# EAGLE library part CY8C4245AXI-483 (library CY8C4245AXI-483)
PSoC 4 32-Bit Cortex M0 32K Flash TQFP44 Cypress Semiconductor CY8C4245AXI-483, System-On-Chip CMOS for Embedded, 1.71 5.5 V 44-Pin TQFP Source: Datasheet <http://docs-emea.rs-online.com/webdocs/1335/0900766b813353a3.pdf>
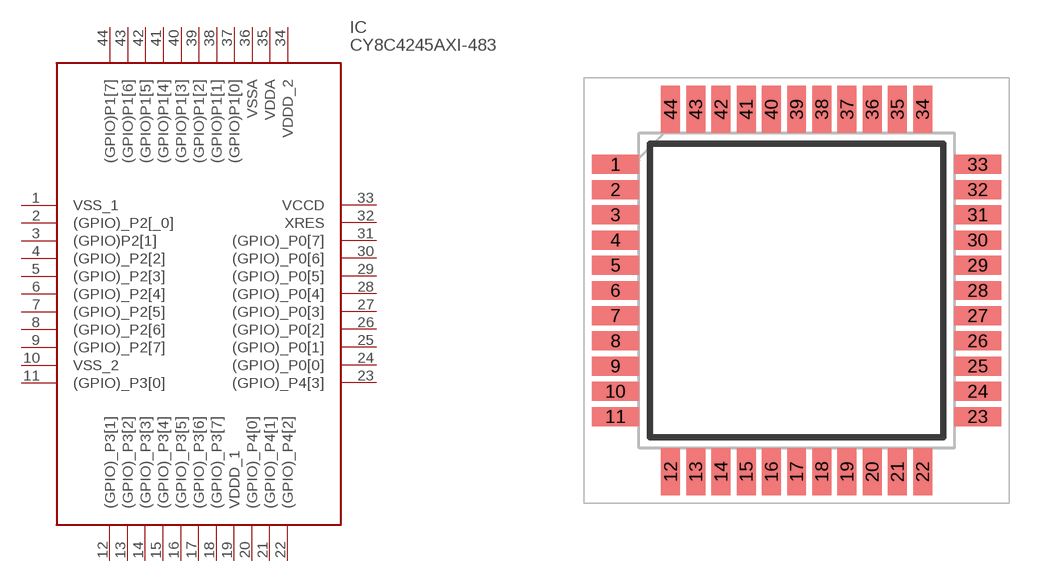
[diagram p0: symbol with the pads of QFP80P1200X1200X160-44N; footprint QFP80P1200X1200X160-44N]

Designator prefix IC

## CY8C4245AXI-483 (Arrow_Part_Number: CY8C4245AXI-483; Arrow_Price-Stock: https://www.arrow.com/en/products/cy8c4245axi-483/cypress-semiconductor; Description: PSoC 4 32-Bit Cortex M0 32K Flash TQFP44 Cypress Semiconductor CY8C4245AXI-483, System-On-Chip CMOS for Embedded, 1.71 5.5 V 44-Pin TQFP; Height: 1.6mm; Manufacturer_Name: Cypress Semiconductor; Manufacturer_Part_Number: CY8C4245AXI-483; Mouser_Part_Number: 727-CY8C4245AXI-483; Mouser_Price-Stock: https://www.mouser.co.uk/ProductDetail/Cypress-Semiconductor/CY8C4245AXI-483?qs=LqwxS8kK3Avb3G2RQ97pnQ%3D%3D)  [QFP80P1200X1200X160-44N]
1  VSS_1
2  (GPIO)_P2[_0]
3  (GPIO)P2[1]
4  (GPIO)_P2[2]
5  (GPIO)_P2[3]
6  (GPIO)_P2[4]
7  (GPIO)_P2[5]
8  (GPIO)_P2[6]
9  (GPIO)_P2[7]
10  VSS_2
11  (GPIO)_P3[0]
12  (GPIO)_P3[1]
13  (GPIO)_P3[2]
14  (GPIO)_P3[3]
15  (GPIO)_P3[4]
16  (GPIO)_P3[5]
17  (GPIO)_P3[6]
18  (GPIO)_P3[7]
19  VDDD_1
20  (GPIO)_P4[0]
21  (GPIO)_P4[1]
22  (GPIO)_P4[2]
23  (GPIO)_P4[3]
24  (GPIO)_P0[0]
25  (GPIO)_P0[1]
26  (GPIO)_P0[2]
27  (GPIO)_P0[3]
28  (GPIO)_P0[4]
29  (GPIO)_P0[5]
30  (GPIO)_P0[6]
31  (GPIO)_P0[7]
32  XRES
33  VCCD
34  VDDD_2
35  VDDA
36  VSSA
37  (GPIO)P1[0]
38  (GPIO)P1[1]
39  (GPIO)P1[2]
40  (GPIO)P1[3]
41  (GPIO)P1[4]
42  (GPIO)P1[5]
43  (GPIO)P1[6]
44  (GPIO)P1[7]

## Footprint QFP80P1200X1200X160-44N (pad centres in mm)
44-pin TQFP
smd 1.5 x 0.6: 1 -5.75,4; 2 -5.75,3.2; 3 -5.75,2.4; 4 -5.75,1.6; 5 -5.75,0.8; 6 -5.75,0; 7 -5.75,-0.8; 8 -5.75,-1.6; 9 -5.75,-2.4; 10 -5.75,-3.2; 11 -5.75,-4; 23 5.75,-4; 24 5.75,-3.2; 25 5.75,-2.4; 26 5.75,-1.6; 27 5.75,-0.8; 28 5.75,0; 29 5.75,0.8; 30 5.75,1.6; 31 5.75,2.4; 32 5.75,3.2; 33 5.75,4
smd 0.6 x 1.5: 12 -4,-5.75; 13 -3.2,-5.75; 14 -2.4,-5.75; 15 -1.6,-5.75; 16 -0.8,-5.75; 17 0,-5.75; 18 0.8,-5.75; 19 1.6,-5.75; 20 2.4,-5.75; 21 3.2,-5.75; 22 4,-5.75; 34 4,5.75; 35 3.2,5.75; 36 2.4,5.75; 37 1.6,5.75; 38 0.8,5.75; 39 0,5.75; 40 -0.8,5.75; 41 -1.6,5.75; 42 -2.4,5.75; 43 -3.2,5.75; 44 -4,5.75